# EAGLE library part MAX3051ESA+ (library MAX3051ESA+)
CAN Transceiver 1 Mbit/s ISO 11898 Standby-Mode 8pins SOIC <https://componentsearchengine.com/Images/3/MAX3051ESA%2B.jpg> Source: Datasheet <http://datasheets.maximintegrated.com/en/ds/MAX3051.pdf>
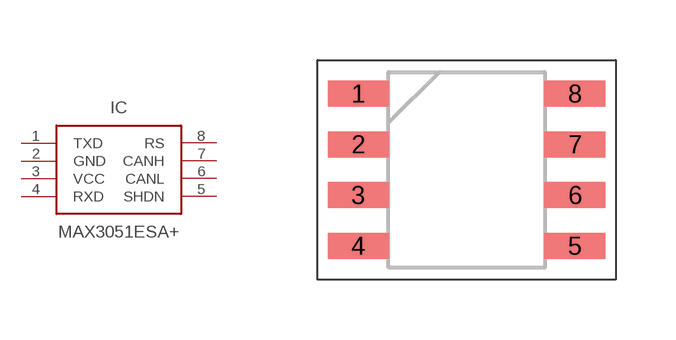
[diagram p0: symbol with the pads of SOIC127P600X175-8N; footprint SOIC127P600X175-8N]

Designator prefix IC

## MAX3051ESA+ (Description: CAN Transceiver 1 Mbit/s ISO 11898 Standby-Mode 8pins SOIC; Height: 1.75mm; Manufacturer_Name: Maxim Integrated; Manufacturer_Part_Number: MAX3051ESA+; RS_Part_Number: 7329005; Supplier_Name: RS)  [SOIC127P600X175-8N]
1  TXD  in
2  GND  in
3  VCC  in
4  RXD  in
5  SHDN  in
6  CANL  in
7  CANH  in
8  RS  in

## Footprint SOIC127P600X175-8N (pad centres in mm)
8 SO
smd 1.525 x 0.65: 1 -2.712,1.905; 2 -2.712,0.635; 3 -2.712,-0.635; 4 -2.712,-1.905; 5 2.712,-1.905; 6 2.712,-0.635; 7 2.712,0.635; 8 2.712,1.905